# EAGLE library part TEXAS_HDC1080 (library airu-board)
The HDC1080 is a low power digital humidity sensor with integrated temperature sensor with excellent measurement accuracy . It operates over a wide supply range, and is a low cost, low power alternative to competitive solutions in a wide range of common applications. The humidity and temperature sensors are factory calibrated.
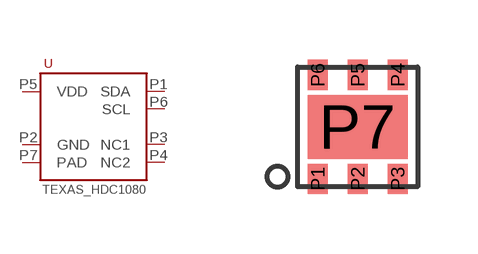
[diagram p9: symbol with the pads of TEXAS_WSON; footprint TEXAS_WSON]

Designator prefix -

## TEXAS_HDC1080  [TEXAS_WSON]
P1  SDA
P2  GND  pwr
P3  NC1  nc
P4  NC2  nc
P5  VDD  pwr
P6  SCL
P7  PAD  pwr

## Footprint TEXAS_WSON (pad centres in mm)
smd 0.5 x 0.75: P1 -1,-1.3; P2 0,-1.3; P3 1,-1.3; P4 1,1.3; P5 0,1.3; P6 -1,1.3
smd 2.5 x 1.6: P7 0,0